# Altium footprint library WR-TBL_Spring Clamp_5.00mm.PcbLib: 78 footprints (part 1 of 5)
Each footprint in its own frame and in the unit in brackets; x right, y up, seen from the top. Pads: shape width x height; smd on the part's side, far side on the other; paste and mask are expansions set on the pad; w line width, h text height; cw(c..) or ccw(c..) is an arc to the next point about the centre after c.
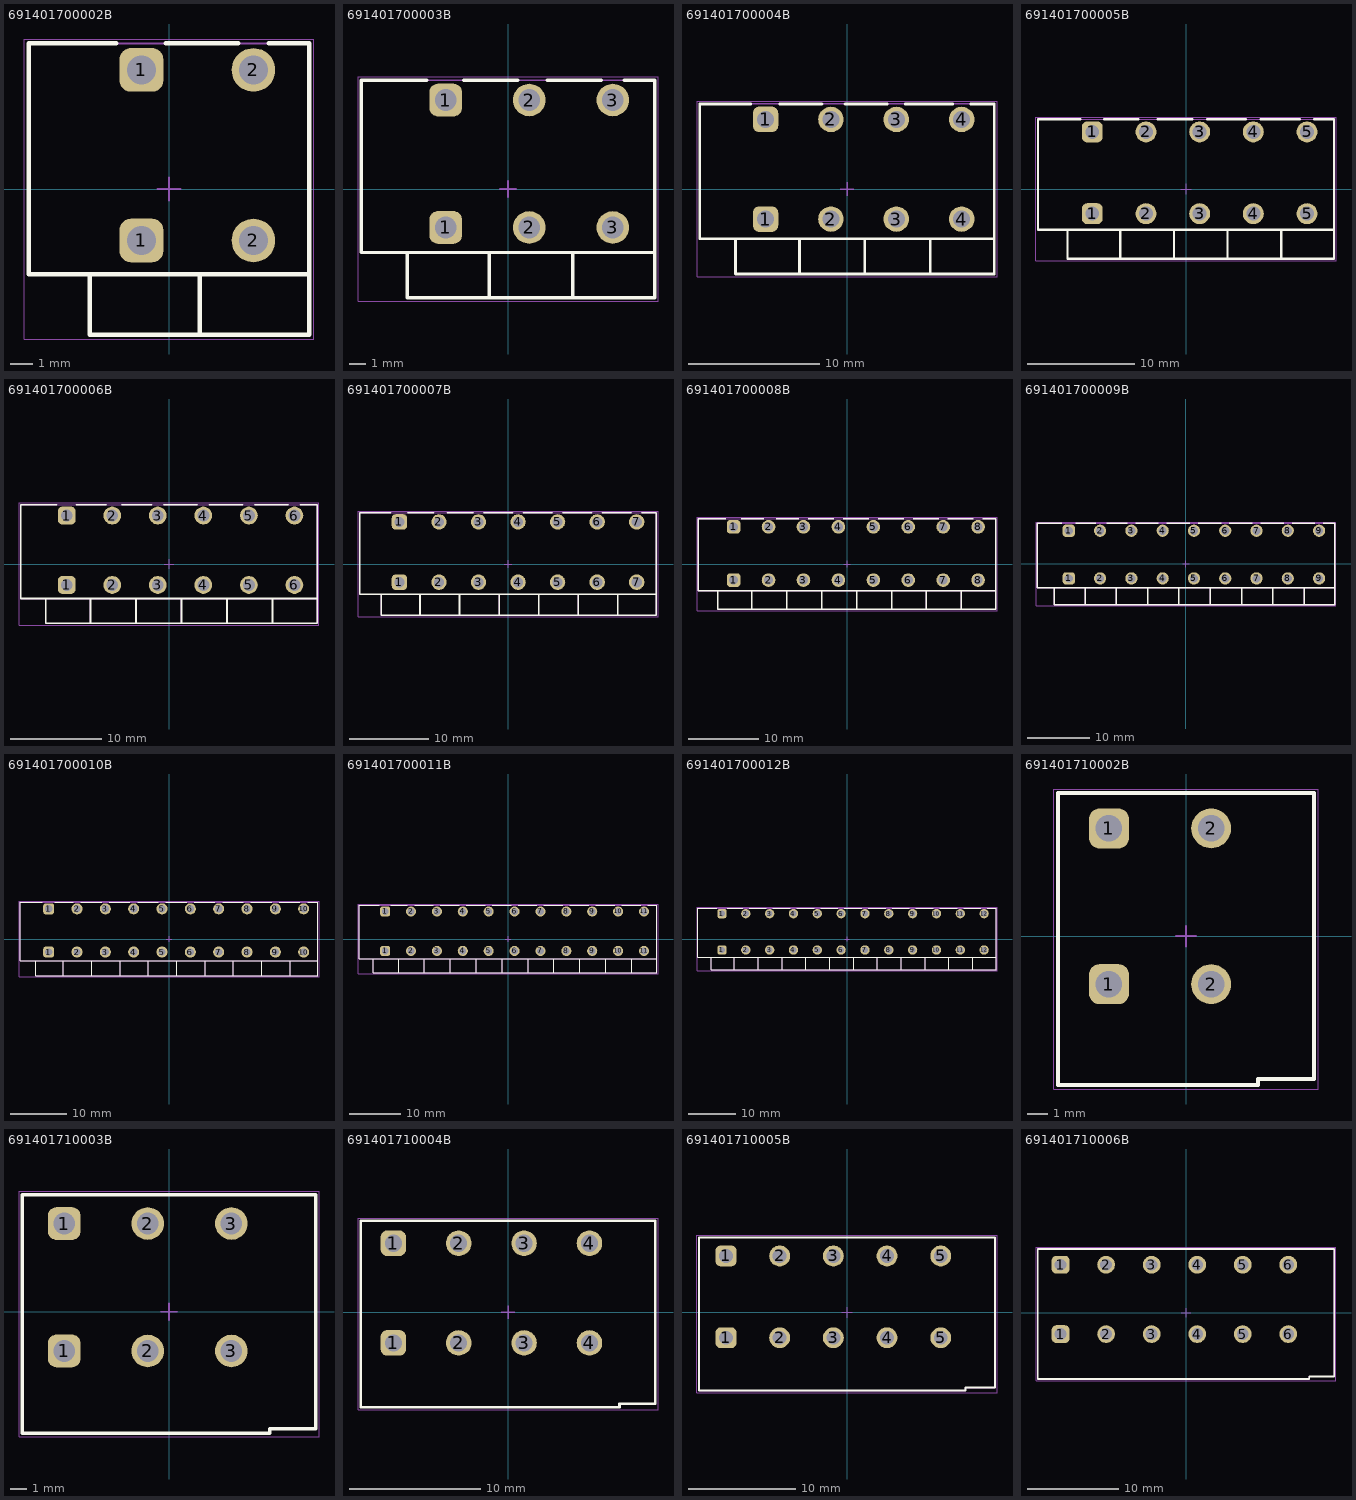
[diagram p0: the footprints below, top view; thin cyan lines are the x and y axes]

## 691401700002B [mm] "5.00 mm Screwless Vertical Entry - 2.0 mm2 Wires, 2p"
height 14
pads (4):
  rrect50% 1.95x1.95 hole 1.3: 1(-1.23,-2.3) 1(-1.23,5.32)
  round 1.95 hole 1.3: 2(3.77,-2.3) 2(3.77,5.32)
Top Overlay:
  lines w0.2: -3.53,-3.8 -3.53,-6.5 6.27,-6.5 6.27,6.5 4.45,6.5 ; -2.35,6.5 -6.27,6.5 -6.27,-3.8 6.27,-3.8 ; -0.15,6.5 3.09,6.5 ; 1.37,-6.5 1.37,-3.8
Top Assembly:
  lines w0.1: -3.53,-3.8 -3.53,-6.5 6.27,-6.5 6.27,6.5 -6.27,6.5 -6.27,-3.8 6.27,-3.8 ; 1.37,-6.5 1.37,-3.8
Top Designator:
  text ".Designator" at -3.647,-0.357 h1
Top 3D Body:
  lines w0.1: -3.53,-3.8 -3.53,-6.5 6.27,-6.5 6.27,6.5 -6.27,6.5 -6.27,-3.8 6.27,-3.8 ; 1.37,-6.5 1.37,-3.8
Top Courtyard:
  lines w0.05: -6.47,-6.7 -6.47,6.7 6.47,6.7 6.47,-6.7 -6.47,-6.7
Top Component Center:
  lines w0.1: -0.5,0 0.5,0 ; 0,-0.5 0,0.5
3D body "691401700002B.stp": height 14.05, standoff -3.2, extent -6.27,-6.5 6.27,6.5

## 691401700003B [mm] "5.00 mm Screwless Vertical Entry - 2.0 mm2 Wires, 3p"
height 14
pads (6):
  rrect50% 1.95x1.95 hole 1.3: 1(-3.73,-2.3) 1(-3.73,5.32)
  round 1.95 hole 1.3: 2(1.27,-2.3) 2(1.27,5.32) 3(6.27,-2.3) 3(6.27,5.32)
Top Overlay:
  lines w0.2: -6.03,-3.8 -6.03,-6.5 8.77,-6.5 8.77,6.5 6.95,6.5 ; -4.85,6.5 -8.77,6.5 -8.77,-3.8 8.77,-3.8 ; -2.65,6.5 0.59,6.5 ; -1.13,-6.5 -1.13,-3.8 ; 2.35,6.5 5.59,6.5 ; 3.87,-6.5 3.87,-3.8
Top Assembly:
  lines w0.1: -6.03,-3.8 -6.03,-6.5 8.77,-6.5 8.77,6.5 -8.77,6.5 -8.77,-3.8 8.77,-3.8 ; -1.13,-6.5 -1.13,-3.8 ; 3.87,-6.5 3.87,-3.8
Top Designator:
  text ".Designator" at -3.647,-0.357 h1
Top 3D Body:
  lines w0.1: -6.03,-3.8 -6.03,-6.5 8.77,-6.5 8.77,6.5 -8.77,6.5 -8.77,-3.8 8.77,-3.8 ; -1.13,-6.5 -1.13,-3.8 ; 3.87,-6.5 3.87,-3.8
Top Courtyard:
  lines w0.05: -8.97,-6.7 8.97,-6.7 8.97,6.7 -8.97,6.7 -8.97,-6.7
Top Component Center:
  lines w0.1: -0.5,0 0.5,0 ; 0,-0.5 0,0.5
3D body "691401700003B.stp": height 14.1, standoff -3.2, extent -8.77,-6.5 8.77,6.5

## 691401700004B [mm] "5.00 mm Screwless Vertical Entry - 2.0 mm2 Wires, 4p"
height 14
pads (8):
  rrect50% 1.95x1.95 hole 1.3: 1(-6.23,-2.3) 1(-6.23,5.32)
  round 1.95 hole 1.3: 2(-1.23,-2.3) 2(-1.23,5.32) 3(3.77,-2.3) 3(3.77,5.32) 4(8.77,-2.3) 4(8.77,5.32)
Top Overlay:
  lines w0.2: -8.53,-3.8 -8.53,-6.5 11.27,-6.5 11.27,6.5 9.45,6.5 ; -7.35,6.5 -11.27,6.5 -11.27,-3.8 11.27,-3.8 ; -5.15,6.5 -1.91,6.5 ; -3.63,-6.5 -3.63,-3.8 ; -0.15,6.5 3.09,6.5 ; 1.37,-6.5 1.37,-3.8 ; 4.45,6.5 8.1,6.5 ; 6.37,-6.5 6.37,-3.8
Top Assembly:
  lines w0.1: -8.53,-3.8 -8.53,-6.5 11.27,-6.5 11.27,6.5 -11.27,6.5 -11.27,-3.8 11.27,-3.8 ; -3.63,-6.5 -3.63,-3.8 ; 1.37,-6.5 1.37,-3.8 ; 6.37,-6.5 6.37,-3.8
Top Designator:
  text ".Designator" at -3.647,-0.357 h1
Top 3D Body:
  lines w0.1: -8.53,-3.8 -8.53,-6.5 11.27,-6.5 11.27,6.5 -11.27,6.5 -11.27,-3.8 11.27,-3.8 ; -3.63,-6.5 -3.63,-3.8 ; 1.37,-6.5 1.37,-3.8 ; 6.37,-6.5 6.37,-3.8
Top Courtyard:
  lines w0.05: -11.47,-6.7 11.47,-6.7 11.47,6.7 -11.47,6.7 -11.47,-6.7
Top Component Center:
  lines w0.1: -0.5,0 0.5,0 ; 0,-0.5 0,0.5
3D body "691401700004B.stp": height 14.1, standoff -3.2, extent -11.27,-6.5 11.27,6.5

## 691401700005B [mm] "5.00 mm Screwless Vertical Entry - 2.0 mm2 Wires, 5p"
height 14
pads (10):
  rrect50% 1.95x1.95 hole 1.3: 1(-8.73,-2.3) 1(-8.73,5.32)
  round 1.95 hole 1.3: 2(-3.73,-2.3) 2(-3.73,5.32) 3(1.27,-2.3) 3(1.27,5.32) 4(6.27,-2.3) 4(6.27,5.32) 5(11.27,-2.3) 5(11.27,5.32)
Top Overlay:
  lines w0.2: -11.03,-3.8 -11.03,-6.5 13.77,-6.5 13.77,6.5 11.95,6.5 ; -9.85,6.5 -13.77,6.5 -13.77,-3.8 13.77,-3.8 ; -7.65,6.5 -4.41,6.5 ; -6.13,-6.5 -6.13,-3.8 ; -2.65,6.5 0.59,6.5 ; -1.13,-6.5 -1.13,-3.8 ; 1.95,6.5 5.6,6.5 ; 3.87,-6.5 3.87,-3.8 ; 6.95,6.5 10.6,6.5 ; 8.87,-6.5 8.87,-3.8
Top Assembly:
  lines w0.1: -11.03,-3.8 -11.03,-6.5 13.77,-6.5 13.77,6.5 -13.77,6.5 -13.77,-3.8 13.77,-3.8 ; -6.13,-6.5 -6.13,-3.8 ; -1.13,-6.5 -1.13,-3.8 ; 3.87,-6.5 3.87,-3.8 ; 8.87,-6.5 8.87,-3.8
Top Designator:
  text ".Designator" at -3.647,-0.357 h1
Top 3D Body:
  lines w0.1: -11.03,-3.8 -11.03,-6.5 13.77,-6.5 13.77,6.5 -13.77,6.5 -13.77,-3.8 13.77,-3.8 ; -6.13,-6.5 -6.13,-3.8 ; -1.13,-6.5 -1.13,-3.8 ; 3.87,-6.5 3.87,-3.8 ; 8.87,-6.5 8.87,-3.8
Top Courtyard:
  lines w0.05: -13.97,-6.7 13.97,-6.7 13.97,6.7 -13.97,6.7 -13.97,-6.7
Top Component Center:
  lines w0.1: -0.5,0 0.5,0 ; 0,-0.5 0,0.5
3D body "691401700005B.stp": height 14.1, standoff -3.2, extent -13.77,-6.5 13.77,6.5

## 691401700006B [mm] "5.00 mm Screwless Vertical Entry - 2.0 mm2 Wires, 6p"
height 14
pads (12):
  rrect50% 1.95x1.95 hole 1.3: 1(-11.23,-2.3) 1(-11.23,5.32)
  round 1.95 hole 1.3: 2(-6.23,-2.3) 2(-6.23,5.32) 3(-1.23,-2.3) 3(-1.23,5.32) 4(3.77,-2.3) 4(3.77,5.32) 5(8.77,-2.3) 5(8.77,5.32) 6(13.77,-2.3) 6(13.77,5.32)
Top Overlay:
  lines w0.2: -13.53,-3.8 -13.53,-6.5 16.27,-6.5 16.27,6.5 14.45,6.5 ; -12.35,6.5 -16.27,6.5 -16.27,-3.8 16.27,-3.8 ; -10.15,6.5 -6.91,6.5 ; -8.63,-6.5 -8.63,-3.8 ; -5.15,6.5 -1.91,6.5 ; -3.63,-6.5 -3.63,-3.8 ; -0.55,6.5 3.1,6.5 ; 1.37,-6.5 1.37,-3.8 ; 4.45,6.5 8.1,6.5 ; 6.37,-6.5 6.37,-3.8 ; 9.45,6.5 13.1,6.5 ; 11.37,-6.5 11.37,-3.8
Top Assembly:
  lines w0.1: -13.53,-3.8 -13.53,-6.5 16.27,-6.5 16.27,6.5 -16.27,6.5 -16.27,-3.8 16.27,-3.8 ; -8.63,-6.5 -8.63,-3.8 ; -3.63,-6.5 -3.63,-3.8 ; 1.37,-6.5 1.37,-3.8 ; 6.37,-6.5 6.37,-3.8 ; 11.37,-6.5 11.37,-3.8
Top Designator:
  text ".Designator" at -3.647,-0.357 h1
Top 3D Body:
  lines w0.1: -13.53,-3.8 -13.53,-6.5 16.27,-6.5 16.27,6.5 -16.27,6.5 -16.27,-3.8 16.27,-3.8 ; -8.63,-6.5 -8.63,-3.8 ; -3.63,-6.5 -3.63,-3.8 ; 1.37,-6.5 1.37,-3.8 ; 6.37,-6.5 6.37,-3.8 ; 11.37,-6.5 11.37,-3.8
Top Courtyard:
  lines w0.05: -16.47,-6.7 -16.47,6.7 16.47,6.7 16.47,-6.7 -16.47,-6.7
Top Component Center:
  lines w0.1: -0.5,0 0.5,0 ; 0,-0.5 0,0.5
3D body "691401700006B.stp": height 14.1, standoff -3.2, extent -16.27,-6.5 16.27,6.5

## 691401700007B [mm] "5.00 mm Screwless Vertical Entry - 2.0 mm2 Wires, 7p"
height 14
pads (14):
  rrect50% 1.95x1.95 hole 1.3: 1(-13.73,-2.3) 1(-13.73,5.32)
  round 1.95 hole 1.3: 2(-8.73,-2.3) 2(-8.73,5.32) 3(-3.73,-2.3) 3(-3.73,5.32) 4(1.27,-2.3) 4(1.27,5.32) 5(6.27,-2.3) 5(6.27,5.32) 6(11.27,-2.3) 6(11.27,5.32) 7(16.27,-2.3) 7(16.27,5.32)
Top Overlay:
  lines w0.2: -16.03,-3.8 -16.03,-6.5 18.77,-6.5 18.77,6.5 16.95,6.5 ; -14.85,6.5 -18.77,6.5 -18.77,-3.8 18.77,-3.8 ; -12.65,6.5 -9.41,6.5 ; -11.13,-6.5 -11.13,-3.8 ; -7.65,6.5 -4.41,6.5 ; -6.13,-6.5 -6.13,-3.8 ; -3.05,6.5 0.6,6.5 ; -1.13,-6.5 -1.13,-3.8 ; 1.95,6.5 5.6,6.5 ; 3.87,-6.5 3.87,-3.8 ; 6.95,6.5 10.6,6.5 ; 8.87,-6.5 8.87,-3.8 ; 11.95,6.5 15.6,6.5 ; 13.87,-6.5 13.87,-3.8
Top Assembly:
  lines w0.1: -16.03,-3.8 -16.03,-6.5 18.77,-6.5 18.77,6.5 -18.77,6.5 -18.77,-3.8 18.77,-3.8 ; -11.13,-6.5 -11.13,-3.8 ; -6.13,-6.5 -6.13,-3.8 ; -1.13,-6.5 -1.13,-3.8 ; 3.87,-6.5 3.87,-3.8 ; 8.87,-6.5 8.87,-3.8 ; 13.87,-6.5 13.87,-3.8
Top Designator:
  text ".Designator" at -3.647,-0.357 h1
Top 3D Body:
  lines w0.1: -16.03,-3.8 -16.03,-6.5 18.77,-6.5 18.77,6.5 -18.77,6.5 -18.77,-3.8 18.77,-3.8 ; -11.13,-6.5 -11.13,-3.8 ; -6.13,-6.5 -6.13,-3.8 ; -1.13,-6.5 -1.13,-3.8 ; 3.87,-6.5 3.87,-3.8 ; 8.87,-6.5 8.87,-3.8 ; 13.87,-6.5 13.87,-3.8
Top Courtyard:
  lines w0.05: -18.97,-6.7 -18.97,6.7 18.97,6.7 18.97,-6.7 -18.97,-6.7
Top Component Center:
  lines w0.1: -0.5,0 0.5,0 ; 0,-0.5 0,0.5
3D body "691401700007B.stp": height 14.1, standoff -3.2, extent -18.77,-6.5 18.77,6.5

## 691401700008B [mm] "5.00 mm Screwless Vertical Entry - 2.0 mm2 Wires, 8p"
height 14
pads (16):
  rrect50% 1.95x1.95 hole 1.3: 1(-16.23,-2.3) 1(-16.23,5.32)
  round 1.95 hole 1.3: 2(-11.23,-2.3) 2(-11.23,5.32) 3(-6.23,-2.3) 3(-6.23,5.32) 4(-1.23,-2.3) 4(-1.23,5.32) 5(3.77,-2.3) 5(3.77,5.32) 6(8.77,-2.3) 6(8.77,5.32) 7(13.77,-2.3) 7(13.77,5.32) 8(18.77,-2.3) 8(18.77,5.32)
Top Overlay:
  lines w0.2: -18.53,-3.8 -18.53,-6.5 21.27,-6.5 21.27,6.5 19.45,6.5 ; -17.35,6.5 -21.27,6.5 -21.27,-3.8 21.27,-3.8 ; -15.15,6.5 -11.91,6.5 ; -13.63,-6.5 -13.63,-3.8 ; -10.15,6.5 -6.91,6.5 ; -8.63,-6.5 -8.63,-3.8 ; -5.55,6.5 -1.9,6.5 ; -3.63,-6.5 -3.63,-3.8 ; -0.55,6.5 3.1,6.5 ; 1.37,-6.5 1.37,-3.8 ; 4.45,6.5 8.1,6.5 ; 6.37,-6.5 6.37,-3.8 ; 9.45,6.5 13.1,6.5 ; 11.37,-6.5 11.37,-3.8 ; 14.45,6.5 18.1,6.5 ; 16.37,-6.5 16.37,-3.8
Top Assembly:
  lines w0.1: -18.53,-3.8 -18.53,-6.5 21.27,-6.5 21.27,6.5 -21.27,6.5 -21.27,-3.8 21.27,-3.8 ; -13.63,-6.5 -13.63,-3.8 ; -8.63,-6.5 -8.63,-3.8 ; -3.63,-6.5 -3.63,-3.8 ; 1.37,-6.5 1.37,-3.8 ; 6.37,-6.5 6.37,-3.8 ; 11.37,-6.5 11.37,-3.8 ; 16.37,-6.5 16.37,-3.8
Top Designator:
  text ".Designator" at -3.647,-0.357 h1
Top 3D Body:
  lines w0.1: -18.53,-3.8 -18.53,-6.5 21.27,-6.5 21.27,6.5 -21.27,6.5 -21.27,-3.8 21.27,-3.8 ; -13.63,-6.5 -13.63,-3.8 ; -8.63,-6.5 -8.63,-3.8 ; -3.63,-6.5 -3.63,-3.8 ; 1.37,-6.5 1.37,-3.8 ; 6.37,-6.5 6.37,-3.8 ; 11.37,-6.5 11.37,-3.8 ; 16.37,-6.5 16.37,-3.8
Top Courtyard:
  lines w0.05: -21.47,-6.7 -21.47,6.7 21.47,6.7 21.47,-6.7 -21.47,-6.7
Top Component Center:
  lines w0.1: -0.5,0 0.5,0 ; 0,-0.5 0,0.5
3D body "691401700008B.stp": height 14.1, standoff -3.2, extent -21.27,-6.5 21.27,6.5

## 691401700009B [mm] "5.00 mm Screwless Vertical Entry - 2.0 mm2 Wires, 9p"
height 14
pads (18):
  rrect50% 1.95x1.95 hole 1.3: 1(-18.73,-2.3) 1(-18.73,5.32)
  round 1.95 hole 1.3: 2(-13.73,-2.3) 2(-13.73,5.32) 3(-8.73,-2.3) 3(-8.73,5.32) 4(-3.73,-2.3) 4(-3.73,5.32) 5(1.27,-2.3) 5(1.27,5.32) 6(6.27,-2.3) 6(6.27,5.32) 7(11.27,-2.3) 7(11.27,5.32) 8(16.27,-2.3) 8(16.27,5.32) 9(21.27,-2.3) 9(21.27,5.32)
Top Overlay:
  lines w0.2: -21.03,-3.8 -21.03,-6.5 23.77,-6.5 23.77,6.5 21.95,6.5 ; -19.85,6.5 -23.77,6.5 -23.77,-3.8 23.77,-3.8 ; -17.65,6.5 -14.41,6.5 ; -16.13,-6.5 -16.13,-3.8 ; -12.65,6.5 -9.41,6.5 ; -11.13,-6.5 -11.13,-3.8 ; -8.05,6.5 -4.4,6.5 ; -6.13,-6.5 -6.13,-3.8 ; -3.05,6.5 0.6,6.5 ; -1.13,-6.5 -1.13,-3.8 ; 1.95,6.5 5.6,6.5 ; 3.87,-6.5 3.87,-3.8 ; 6.95,6.5 10.6,6.5 ; 8.87,-6.5 8.87,-3.8 ; 11.95,6.5 15.6,6.5 ; 13.87,-6.5 13.87,-3.8 ; 16.95,6.5 20.6,6.5 ; 18.87,-6.5 18.87,-3.8
Top Assembly:
  lines w0.1: -21.03,-3.8 -21.03,-6.5 23.77,-6.5 23.77,6.5 -23.77,6.5 -23.77,-3.8 23.77,-3.8 ; -16.13,-6.5 -16.13,-3.8 ; -11.13,-6.5 -11.13,-3.8 ; -6.13,-6.5 -6.13,-3.8 ; -1.13,-6.5 -1.13,-3.8 ; 3.87,-6.5 3.87,-3.8 ; 8.87,-6.5 8.87,-3.8 ; 13.87,-6.5 13.87,-3.8 ; 18.87,-6.5 18.87,-3.8
Top Designator:
  text ".Designator" at -3.647,-0.357 h1
Top 3D Body:
  lines w0.1: -21.03,-3.8 -21.03,-6.5 23.77,-6.5 23.77,6.5 -23.77,6.5 -23.77,-3.8 23.77,-3.8 ; -16.13,-6.5 -16.13,-3.8 ; -11.13,-6.5 -11.13,-3.8 ; -6.13,-6.5 -6.13,-3.8 ; -1.13,-6.5 -1.13,-3.8 ; 3.87,-6.5 3.87,-3.8 ; 8.87,-6.5 8.87,-3.8 ; 13.87,-6.5 13.87,-3.8 ; 18.87,-6.5 18.87,-3.8
Top Courtyard:
  lines w0.05: -23.97,-6.7 23.97,-6.7 23.97,6.7 -23.97,6.7 -23.97,-6.7
Top Component Center:
  lines w0.1: -0.5,0 0.5,0 ; 0,-0.5 0,0.5
3D body "691401700009B.stp": height 14.1, standoff -3.2, extent -23.77,-6.5 23.77,6.5

## 691401700010B [mm] "5.00 mm Screwless Vertical Entry - 2.0 mm2 Wires, 10p"
height 14
pads (20):
  rrect50% 1.95x1.95 hole 1.3: 1(-21.23,-2.3) 1(-21.23,5.32)
  round 1.95 hole 1.3: 2(-16.23,-2.3) 2(-16.23,5.32) 3(-11.23,-2.3) 3(-11.23,5.32) 4(-6.23,-2.3) 4(-6.23,5.32) 5(-1.23,-2.3) 5(-1.23,5.32) 6(3.77,-2.3) 6(3.77,5.32) 7(8.77,-2.3) 7(8.77,5.32) 8(13.77,-2.3) 8(13.77,5.32) 9(18.77,-2.3) 9(18.77,5.32) 10(23.77,-2.3) 10(23.77,5.32)
Top Overlay:
  lines w0.2: -23.53,-3.8 -23.53,-6.5 26.27,-6.5 26.27,6.5 24.45,6.5 ; -22.35,6.5 -26.27,6.5 -26.27,-3.8 26.27,-3.8 ; -20.15,6.5 -16.91,6.5 ; -18.63,-6.5 -18.63,-3.8 ; -15.55,6.5 -11.9,6.5 ; -13.63,-6.5 -13.63,-3.8 ; -10.55,6.5 -6.9,6.5 ; -8.63,-6.5 -8.63,-3.8 ; -5.55,6.5 -1.9,6.5 ; -3.63,-6.5 -3.63,-3.8 ; -0.55,6.5 3.1,6.5 ; 1.37,-6.5 1.37,-3.8 ; 4.45,6.5 8.1,6.5 ; 6.37,-6.5 6.37,-3.8 ; 9.45,6.5 13.1,6.5 ; 11.37,-6.5 11.37,-3.8 ; 14.45,6.5 18.1,6.5 ; 16.37,-6.5 16.37,-3.8 ; 19.45,6.5 23.1,6.5 ; 21.37,-6.5 21.37,-3.8
Top Assembly:
  lines w0.1: -23.53,-3.8 -23.53,-6.5 26.27,-6.5 26.27,6.5 -26.27,6.5 -26.27,-3.8 26.27,-3.8 ; -18.63,-6.5 -18.63,-3.8 ; -13.63,-6.5 -13.63,-3.8 ; -8.63,-6.5 -8.63,-3.8 ; -3.63,-6.5 -3.63,-3.8 ; 1.37,-6.5 1.37,-3.8 ; 6.37,-6.5 6.37,-3.8 ; 11.37,-6.5 11.37,-3.8 ; 16.37,-6.5 16.37,-3.8 ; 21.37,-6.5 21.37,-3.8
Top Designator:
  text ".Designator" at -3.647,-0.357 h1
Top 3D Body:
  lines w0.1: -23.53,-3.8 -23.53,-6.5 26.27,-6.5 26.27,6.5 -26.27,6.5 -26.27,-3.8 26.27,-3.8 ; -18.63,-6.5 -18.63,-3.8 ; -13.63,-6.5 -13.63,-3.8 ; -8.63,-6.5 -8.63,-3.8 ; -3.63,-6.5 -3.63,-3.8 ; 1.37,-6.5 1.37,-3.8 ; 6.37,-6.5 6.37,-3.8 ; 11.37,-6.5 11.37,-3.8 ; 16.37,-6.5 16.37,-3.8 ; 21.37,-6.5 21.37,-3.8
Top Courtyard:
  lines w0.05: -26.47,-6.7 26.47,-6.7 26.47,6.7 -26.47,6.7 -26.47,-6.7
Top Component Center:
  lines w0.1: -0.5,0 0.5,0 ; 0,-0.5 0,0.5
3D body "691401700010B.stp": height 14.1, standoff -3.2, extent -26.27,-6.5 26.27,6.5

## 691401700011B [mm] "5.00 mm Screwless Vertical Entry - 2.0 mm2 Wires, 11p"
height 14
pads (22):
  rrect50% 1.95x1.95 hole 1.3: 1(-23.73,-2.3) 1(-23.73,5.32)
  round 1.95 hole 1.3: 2(-18.73,-2.3) 2(-18.73,5.32) 3(-13.73,-2.3) 3(-13.73,5.32) 4(-8.73,-2.3) 4(-8.73,5.32) 5(-3.73,-2.3) 5(-3.73,5.32) 6(1.27,-2.3) 6(1.27,5.32) 7(6.27,-2.3) 7(6.27,5.32) 8(11.27,-2.3) 8(11.27,5.32) 9(16.27,-2.3) 9(16.27,5.32) 10(21.27,-2.3) 10(21.27,5.32) 11(26.27,-2.3) 11(26.27,5.32)
Top Overlay:
  lines w0.2: -26.03,-3.8 -26.03,-6.5 28.77,-6.5 28.77,6.5 26.95,6.5 ; -24.85,6.5 -28.77,6.5 -28.77,-3.8 28.77,-3.8 ; -22.65,6.5 -19.41,6.5 ; -21.13,-6.5 -21.13,-3.8 ; -18.05,6.5 -14.4,6.5 ; -16.13,-6.5 -16.13,-3.8 ; -13.05,6.5 -9.4,6.5 ; -11.13,-6.5 -11.13,-3.8 ; -8.05,6.5 -4.4,6.5 ; -6.13,-6.5 -6.13,-3.8 ; -3.05,6.5 0.6,6.5 ; -1.13,-6.5 -1.13,-3.8 ; 1.95,6.5 5.6,6.5 ; 3.87,-6.5 3.87,-3.8 ; 6.95,6.5 10.6,6.5 ; 8.87,-6.5 8.87,-3.8 ; 11.95,6.5 15.6,6.5 ; 13.87,-6.5 13.87,-3.8 ; 16.95,6.5 20.6,6.5 ; 18.87,-6.5 18.87,-3.8 ; 21.95,6.5 25.6,6.5 ; 23.87,-6.5 23.87,-3.8
Top Assembly:
  lines w0.1: -26.03,-3.8 -26.03,-6.5 28.77,-6.5 28.77,6.5 -28.77,6.5 -28.77,-3.8 28.77,-3.8 ; -21.13,-6.5 -21.13,-3.8 ; -16.13,-6.5 -16.13,-3.8 ; -11.13,-6.5 -11.13,-3.8 ; -6.13,-6.5 -6.13,-3.8 ; -1.13,-6.5 -1.13,-3.8 ; 3.87,-6.5 3.87,-3.8 ; 8.87,-6.5 8.87,-3.8 ; 13.87,-6.5 13.87,-3.8 ; 18.87,-6.5 18.87,-3.8 ; 23.87,-6.5 23.87,-3.8
Top Designator:
  text ".Designator" at -3.647,-0.357 h1
Top 3D Body:
  lines w0.1: -26.03,-3.8 -26.03,-6.5 28.77,-6.5 28.77,6.5 -28.77,6.5 -28.77,-3.8 28.77,-3.8 ; -21.13,-6.5 -21.13,-3.8 ; -16.13,-6.5 -16.13,-3.8 ; -11.13,-6.5 -11.13,-3.8 ; -6.13,-6.5 -6.13,-3.8 ; -1.13,-6.5 -1.13,-3.8 ; 3.87,-6.5 3.87,-3.8 ; 8.87,-6.5 8.87,-3.8 ; 13.87,-6.5 13.87,-3.8 ; 18.87,-6.5 18.87,-3.8 ; 23.87,-6.5 23.87,-3.8
Top Courtyard:
  lines w0.05: -28.97,-6.7 28.97,-6.7 28.97,6.7 -28.97,6.7 -28.97,-6.7
Top Component Center:
  lines w0.1: -0.5,0 0.5,0 ; 0,-0.5 0,0.5
3D body "691401700011B.stp": height 14.1, standoff -3.2, extent -28.77,-6.5 28.77,6.5

## 691401700012B [mm] "5.00 mm Screwless Vertical Entry - 2.0 mm2 Wires, 12p"
height 14
pads (24):
  rrect50% 1.95x1.95 hole 1.3: 1(-26.23,-2.3) 1(-26.23,5.32)
  round 1.95 hole 1.3: 2(-21.23,-2.3) 2(-21.23,5.32) 3(-16.23,-2.3) 3(-16.23,5.32) 4(-11.23,-2.3) 4(-11.23,5.32) 5(-6.23,-2.3) 5(-6.23,5.32) 6(-1.23,-2.3) 6(-1.23,5.32) 7(3.77,-2.3) 7(3.77,5.32) 8(8.77,-2.3) 8(8.77,5.32) 9(13.77,-2.3) 9(13.77,5.32) 10(18.77,-2.3) 10(18.77,5.32) 11(23.77,-2.3) 11(23.77,5.32) 12(28.77,-2.3) 12(28.77,5.32)
Top Overlay:
  lines w0.2: -28.53,-3.8 -28.53,-6.5 31.27,-6.5 31.27,6.5 29.45,6.5 ; -27.35,6.5 -31.27,6.5 -31.27,-3.8 31.27,-3.8 ; -25.15,6.5 -21.91,6.5 ; -23.63,-6.5 -23.63,-3.8 ; -20.55,6.5 -16.9,6.5 ; -18.63,-6.5 -18.63,-3.8 ; -15.55,6.5 -11.9,6.5 ; -13.63,-6.5 -13.63,-3.8 ; -10.55,6.5 -6.9,6.5 ; -8.63,-6.5 -8.63,-3.8 ; -5.55,6.5 -1.9,6.5 ; -3.63,-6.5 -3.63,-3.8 ; -0.55,6.5 3.1,6.5 ; 1.37,-6.5 1.37,-3.8 ; 4.45,6.5 8.1,6.5 ; 6.37,-6.5 6.37,-3.8 ; 9.45,6.5 13.1,6.5 ; 11.37,-6.5 11.37,-3.8 ; 14.45,6.5 18.1,6.5 ; 16.37,-6.5 16.37,-3.8 ; 19.45,6.5 23.1,6.5 ; 21.37,-6.5 21.37,-3.8 ; 24.45,6.5 28.1,6.5 ; 26.37,-6.5 26.37,-3.8
Top Assembly:
  lines w0.1: -28.53,-3.8 -28.53,-6.5 31.27,-6.5 31.27,6.5 -31.27,6.5 -31.27,-3.8 31.27,-3.8 ; -23.63,-6.5 -23.63,-3.8 ; -18.63,-6.5 -18.63,-3.8 ; -13.63,-6.5 -13.63,-3.8 ; -8.63,-6.5 -8.63,-3.8 ; -3.63,-6.5 -3.63,-3.8 ; 1.37,-6.5 1.37,-3.8 ; 6.37,-6.5 6.37,-3.8 ; 11.37,-6.5 11.37,-3.8 ; 16.37,-6.5 16.37,-3.8 ; 21.37,-6.5 21.37,-3.8 ; 26.37,-6.5 26.37,-3.8
Top Designator:
  text ".Designator" at -3.647,-0.357 h1
Top 3D Body:
  lines w0.1: -28.53,-3.8 -28.53,-6.5 31.27,-6.5 31.27,6.5 -31.27,6.5 -31.27,-3.8 31.27,-3.8 ; -23.63,-6.5 -23.63,-3.8 ; -18.63,-6.5 -18.63,-3.8 ; -13.63,-6.5 -13.63,-3.8 ; -8.63,-6.5 -8.63,-3.8 ; -3.63,-6.5 -3.63,-3.8 ; 1.37,-6.5 1.37,-3.8 ; 6.37,-6.5 6.37,-3.8 ; 11.37,-6.5 11.37,-3.8 ; 16.37,-6.5 16.37,-3.8 ; 21.37,-6.5 21.37,-3.8 ; 26.37,-6.5 26.37,-3.8
Top Courtyard:
  lines w0.05: -31.47,-6.7 31.47,-6.7 31.47,6.7 -31.47,6.7 -31.47,-6.7
Top Component Center:
  lines w0.1: -0.5,0 0.5,0 ; 0,-0.5 0,0.5
3D body "691401700012B.stp": height 14.1, standoff -3.2, extent -31.27,-6.5 31.27,6.5

## 691401710002B [mm] "5.00 mm Screwless Horizontal Entry - 2.0 mm2 Wires, 2p"
height 13
pads (4):
  rrect50% 1.95x1.95 hole 1.3: 1(-3.77,-2.35) 1(-3.77,5.27)
  round 1.95 hole 1.3: 2(1.23,-2.35) 2(1.23,5.27)
Top Overlay:
  lines w0.2: -6.27,-7.28 3.53,-7.28 3.53,-7 6.27,-7 6.27,7 -6.27,7 -6.27,-7.275
Top Assembly:
  lines w0.1: -6.27,-7.28 3.53,-7.28 3.53,-7 6.27,-7 6.27,7 -6.27,7 -6.27,-7.275
Top Designator:
  text ".Designator" at -3.647,-0.357 h1
Top 3D Body:
  lines w0.1: -6.27,-7.28 3.53,-7.28 3.53,-7 6.27,-7 6.27,7 -6.27,7 -6.27,-7.275
Top Courtyard:
  lines w0.05: -6.47,-7.48 -6.47,7.2 6.47,7.2 6.47,-7.48 -6.47,-7.48
Top Component Center:
  lines w0.1: -0.5,0 0.5,0 ; 0,-0.5 0,0.5
3D body "691401710002B.stp": height 13.1, standoff -3.35, extent -6.27,-7.275 6.27,7

## 691401710003B [mm] "5.00 mm Screwless Horizontal Entry - 2.0 mm2 Wires, 3p"
height 13
pads (6):
  rrect50% 1.95x1.95 hole 1.3: 1(-6.27,-2.35) 1(-6.27,5.27)
  round 1.95 hole 1.3: 2(-1.27,-2.35) 2(-1.27,5.27) 3(3.73,-2.35) 3(3.73,5.27)
Top Overlay:
  lines w0.2: -8.77,-7.28 6.03,-7.28 6.03,-7 8.77,-7 8.77,7 -8.77,7 -8.77,-7.275
Top Assembly:
  lines w0.1: -8.77,-7.28 6.03,-7.28 6.03,-7 8.77,-7 8.77,7 -8.77,7 -8.77,-7.275
Top Designator:
  text ".Designator" at -3.647,-0.357 h1
Top 3D Body:
  lines w0.1: -8.77,-7.28 6.03,-7.28 6.03,-7 8.77,-7 8.77,7 -8.77,7 -8.77,-7.275
Top Courtyard:
  lines w0.05: -8.97,-7.48 8.97,-7.48 8.97,7.2 -8.97,7.2 -8.97,-7.48
Top Component Center:
  lines w0.1: -0.5,0 0.5,0 ; 0,-0.5 0,0.5
3D body "691401710003B.stp": height 13.1, standoff -3.35, extent -8.77,-7.28 8.77,6.995

## 691401710004B [mm] "5.00 mm Screwless Horizontal Entry - 2.0 mm2 Wires, 4p"
height 13
pads (8):
  rrect50% 1.95x1.95 hole 1.3: 1(-8.77,-2.35) 1(-8.77,5.27)
  round 1.95 hole 1.3: 2(-3.77,-2.35) 2(-3.77,5.27) 3(1.23,-2.35) 3(1.23,5.27) 4(6.23,-2.35) 4(6.23,5.27)
Top Overlay:
  lines w0.2: -11.27,-7.28 8.53,-7.28 8.53,-7 11.27,-7 11.27,7 -11.27,7 -11.27,-7.275
Top Assembly:
  lines w0.1: -11.27,-7.28 8.53,-7.28 8.53,-7 11.27,-7 11.27,7 -11.27,7 -11.27,-7.275
Top Designator:
  text ".Designator" at -3.647,-0.357 h1
Top 3D Body:
  lines w0.1: -11.27,-7.28 8.53,-7.28 8.53,-7 11.27,-7 11.27,7 -11.27,7 -11.27,-7.275
Top Courtyard:
  lines w0.05: -11.47,-7.48 11.47,-7.48 11.47,7.2 -11.47,7.2 -11.47,-7.48
Top Component Center:
  lines w0.1: -0.5,0 0.5,0 ; 0,-0.5 0,0.5
3D body "691401710004B.stp": height 13.1, standoff -3.35, extent -11.27,-7.28 11.27,6.995

## 691401710005B [mm] "5.00 mm Screwless Horizontal Entry - 2.0 mm2 Wires, 5p"
height 13
pads (10):
  rrect50% 1.95x1.95 hole 1.3: 1(-11.27,-2.35) 1(-11.27,5.27)
  round 1.95 hole 1.3: 2(-6.27,-2.35) 2(-6.27,5.27) 3(-1.27,-2.35) 3(-1.27,5.27) 4(3.73,-2.35) 4(3.73,5.27) 5(8.73,-2.35) 5(8.73,5.27)
Top Overlay:
  lines w0.2: -13.77,-7.28 11.03,-7.28 11.03,-7 13.77,-7 13.77,7 -13.77,7 -13.77,-7.275
Top Assembly:
  lines w0.1: -13.77,-7.28 11.03,-7.28 11.03,-7 13.77,-7 13.77,7 -13.77,7 -13.77,-7.275
Top Designator:
  text ".Designator" at -3.647,-0.357 h1
Top 3D Body:
  lines w0.1: -13.77,-7.28 11.03,-7.28 11.03,-7 13.77,-7 13.77,7 -13.77,7 -13.77,-7.275
Top Courtyard:
  lines w0.05: -13.97,-7.48 -13.97,7.2 13.97,7.2 13.97,-7.48 -13.97,-7.48
Top Component Center:
  lines w0.1: -0.5,0 0.5,0 ; 0,-0.5 0,0.5
3D body "691401710005B.stp": height 13.1, standoff -3.35, extent -13.77,-7.28 13.77,6.995

## 691401710006B [mm] "5.00 mm Screwless Horizontal Entry - 2.0 mm2 Wires, 6p"
height 13
pads (12):
  rrect50% 1.95x1.95 hole 1.3: 1(-13.77,-2.35) 1(-13.77,5.27)
  round 1.95 hole 1.3: 2(-8.77,-2.35) 2(-8.77,5.27) 3(-3.77,-2.35) 3(-3.77,5.27) 4(1.23,-2.35) 4(1.23,5.27) 5(6.23,-2.35) 5(6.23,5.27) 6(11.23,-2.35) 6(11.23,5.27)
Top Overlay:
  lines w0.2: -16.27,-7.28 13.53,-7.28 13.53,-7 16.27,-7 16.27,7 -16.27,7 -16.27,-7.275
Top Assembly:
  lines w0.1: -16.27,-7.28 13.53,-7.28 13.53,-7 16.27,-7 16.27,7 -16.27,7 -16.27,-7.275
Top Designator:
  text ".Designator" at -3.647,-0.357 h1
Top 3D Body:
  lines w0.1: -16.27,-7.28 13.53,-7.28 13.53,-7 16.27,-7 16.27,7 -16.27,7 -16.27,-7.275
Top Courtyard:
  lines w0.05: -16.47,-7.48 -16.47,7.2 16.47,7.2 16.47,-7.48 -16.47,-7.48
Top Component Center:
  lines w0.1: -0.5,0 0.5,0 ; 0,-0.5 0,0.5
3D body "691401710006B.stp": height 13.1, standoff -3.35, extent -16.27,-7.28 16.27,6.995